# Altium schematic symbol library Intelliclone.SchLib: 488 symbols (part 2 of 6)
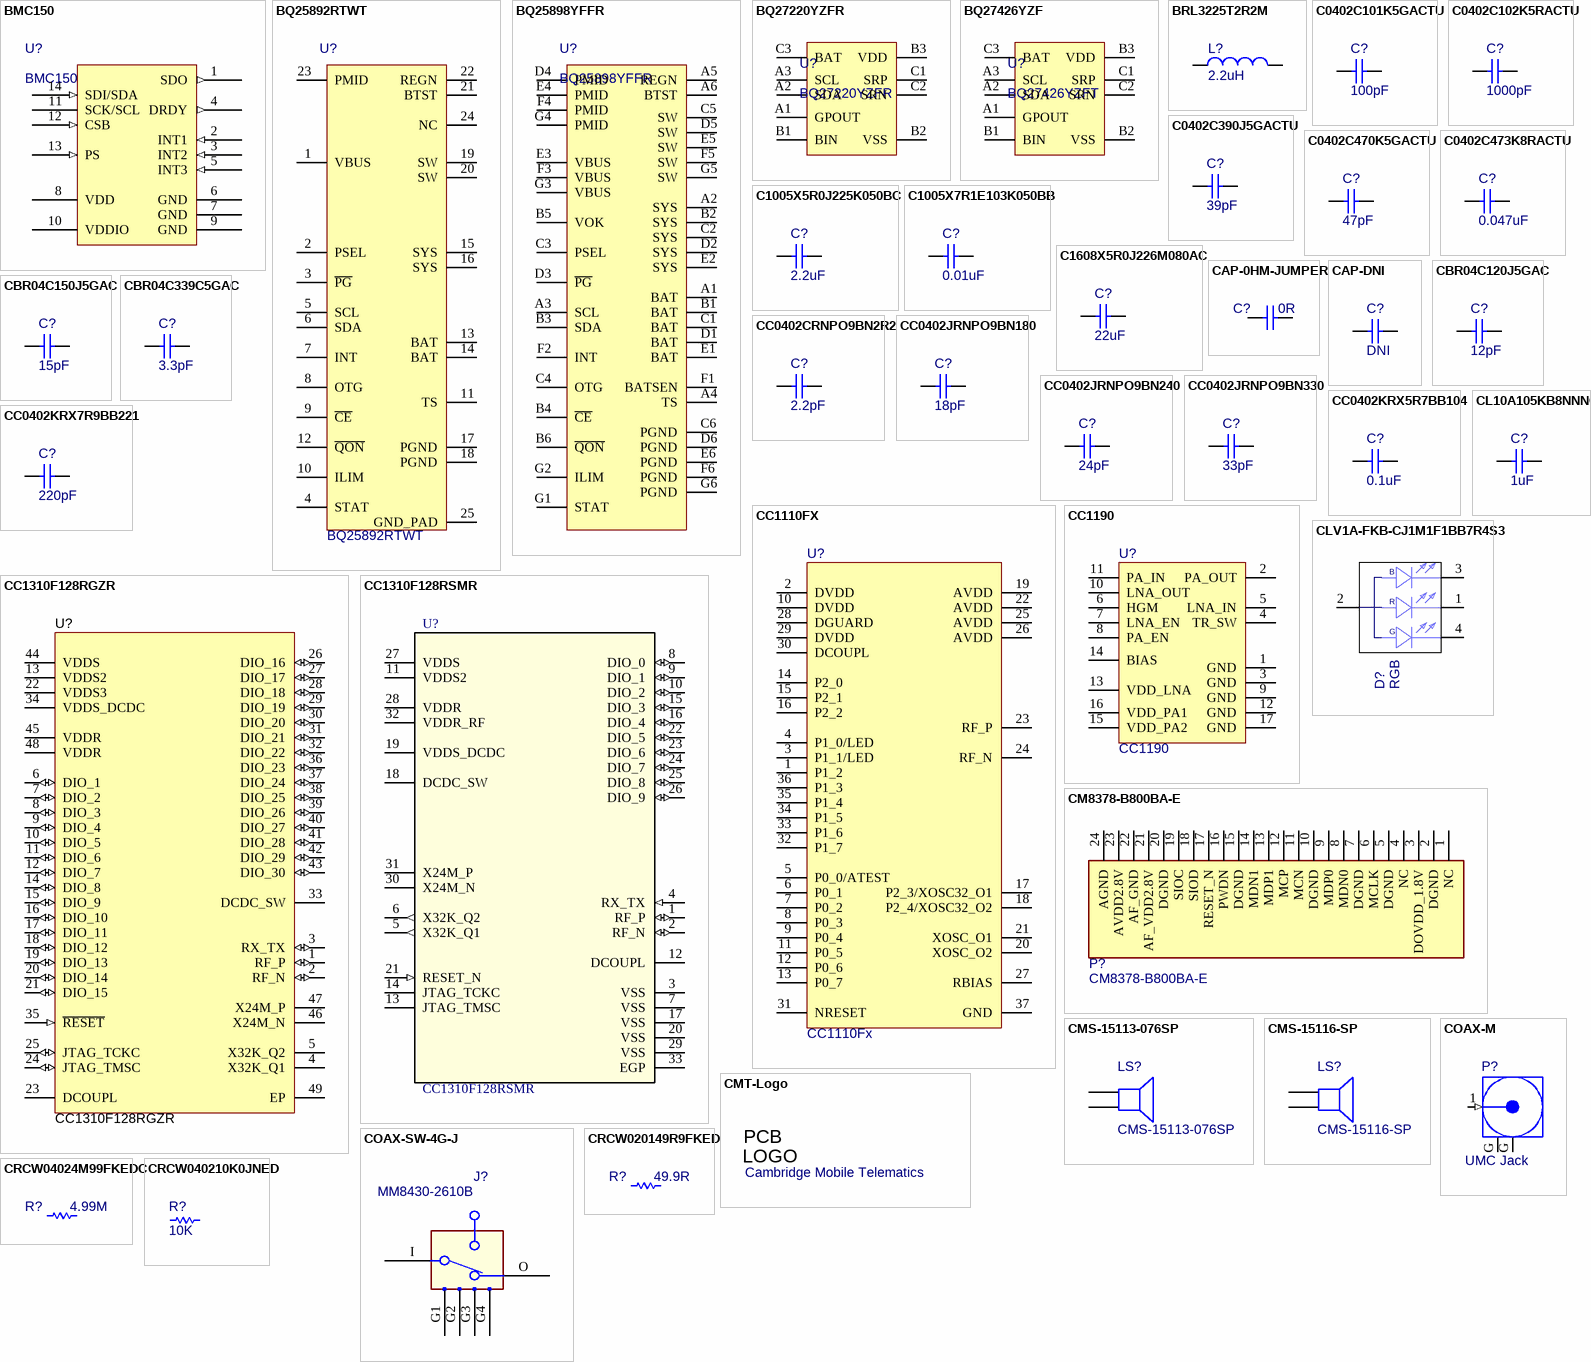
[diagram p22: symbols BMC150 to CRCW040210K0JNED]

## CC1190
designator U?
IC RF FRONT END 915MHZ QFN16; Manufacturer 1: Texas Instruments; Manufacturer Part Number 1: CC1190RGVT; Value: CC11190; Part Type: IC; Supplier 1: Digi-Key; Supplier Part Number 1: 296-25826-2-ND; Supplier 2: Mouser; Supplier 3: Newark; Supplier Part Number 2: 595-CC1190RGVT; Supplier Part Number 3: 64R4902
footprint QFN65P400X400X100-17N
pins: 1 GND, 2 PA_OUT, 3 GND, 4 TR_SW, 5 LNA_IN, 6 HGM, 7 LNA_EN, 8 PA_EN, 9 GND, 10 LNA_OUT, 11 PA_IN, 12 GND, 13 VDD_LNA, 14 BIAS, 15 VDD_PA2, 16 VDD_PA1, 17 GND

## CC1310F128RGZR
designator U?
IC RF TXRX+MCU ISM<1GHZ 48-VFQFN; Alternate PartNumber: CC1310F128RGZT; Manufacturer: Texas Instruments; SymbolCreator: Altium; U/M: EA; SymbolVersion: 2015-05-13; PartNumber: CC1310F128RGZR; PackageReference: RGZ0048A; MountType: SMT; ComponentLink1Description: Datasheet Link; ComponentLink1URL: https://sps06.itg.ti.com/sites/KMS/crossdivteams/altium/docs/ComponentDatasheets/CC13xx_datasheet_ver_0_95.pdf; CompType: IC; Publisher: Texas Instruments; LatestRevisionDate: 2015-06-02; Alternate Manufacturer: Texas Instruments; Supplier 1: Digi-Key; Supplier Part Number 1: 296-44348-1-ND
footprint RGZ0048A
pins: 1 RF_P (io), 2 RF_N (io), 3 RX_TX (io), 4 X32K_Q1, 5 X32K_Q2, 6 DIO_1 (io), 7 DIO_2 (io), 8 DIO_3 (io), 9 DIO_4 (io), 10 DIO_5 (io), 11 DIO_6 (io), 12 DIO_7 (io), 13 VDDS2 (power), 14 DIO_8 (io), 15 DIO_9 (io), 16 DIO_10 (io), 17 DIO_11 (io), 18 DIO_12 (io), 19 DIO_13 (io), 20 DIO_14 (io), 21 DIO_15 (io), 22 VDDS3 (power), 23 DCOUPL (power), 24 JTAG_TMSC (io), 25 JTAG_TCKC (io), 26 DIO_16 (io), 27 DIO_17 (io), 28 DIO_18 (io), 29 DIO_19 (io), 30 DIO_20 (io), 31 DIO_21 (io), 32 DIO_22 (io), 33 DCDC_SW (power), 34 VDDS_DCDC (power), 35 ~{RESET} (in), 36 DIO_23 (io), 37 DIO_24 (io), 38 DIO_25 (io), 39 DIO_26 (io), 40 DIO_27 (io), 41 DIO_28 (io), 42 DIO_29 (io), 43 DIO_30 (io), 44 VDDS (power), 45 VDDR (power), 46 X24M_N, 47 X24M_P, 48 VDDR (power), 49 EP (power)

## CC1310F128RSMR
designator U?
IC RF TXRX+MCU ISM<1GHZ  32VQFN; Manufacturer 1: Texas Instruments; Application_BuildNumber: *; Manufacturer Part Number 1: CC1310F128RSMR; Value: CC1310F128RSMR; Supplier 1: Digi-Key; Supplier Part Number 1: CC1310F128RSMR-ND
footprint RSM0032B
pins: 1 RF_P (io), 2 RF_N (io), 3 VSS (power), 4 RX_TX (in), 5 X32K_Q1 (out), 6 X32K_Q2 (out), 7 VSS (power), 8 DIO_0 (io), 9 DIO_1 (io), 10 DIO_2 (io), 11 VDDS2 (power), 12 DCOUPL, 13 JTAG_TMSC, 14 JTAG_TCKC, 15 DIO_3 (io), 16 DIO_4 (io), 17 VSS (power), 18 DCDC_SW (power), 19 VDDS_DCDC (power), 20 VSS (power), 21 RESET_N (in), 22 DIO_5 (io), 23 DIO_6 (io), 24 DIO_7 (io), 25 DIO_8 (io), 26 DIO_9 (io), 27 VDDS (power), 28 VDDR (power), 29 VSS (power), 30 X24M_N, 31 X24M_P, 32 VDDR_RF (power), 33 EGP (power)

## CL10A105KB8NNNC
designator C?, comment 1uF
CAP CER 1UF 50V X5R 0603; Manufacturer 1: Samsung; Manufacturer Part Number 1: CL10A105KB8NNNC; Part Type: Chip Capacitor; Supplier 1: Digi-Key; Supplier Part Number 1: 1276-1860-1-ND; Voltage Rating: 50V; Value: 1uF
footprint CAPC3216L (Chip Capacitor, Body 3.2x1.6mm, IPC High Density)
footprint CAPC1005L (Chip Capacitor, Body 1.0x0.5mm, IPC High Density)
footprint CAPC2512L (Chip Capacitor, Body 2.54x1.27mm, IPC High Density)
footprint CAPC1608L (Chip Capacitor, Body 1.6x0.8mm, IPC High Density)
footprint CAPC3225L (Chip Capacitor, Body 3.2x2.5mm, IPC High Density)
simulation model CAP (Semiconductor Capacitor)
signal-integrity model Cap Semi
footprint 01005-TIGHT
footprint 0201-TIGHT
footprint C0603 (Chip Capacitor; Body 1.6 x 0.8 mm (LxW typ))
pins: 1, 2

## CLV1A-FKB-CJ1M1F1BB7R4S3
designator D?, comment value RGB  (hidden comment: RGB LED)
LED RED/GREEN/BLUE PLCC4 SMD; Manufacturer Part Number 1: CLV1A-FKB-CJ1M1F1BB7R4S3; Manufacturer 1: Cree; Part Type: LED; Supplier 1: Digi-Key; Supplier 2: Mouser; Supplier Part Number 1: CLV1A-FKB-CJ1M1F1BB7R4S3CT-ND; Supplier Part Number 2: 941-V1AFKBCJ1M1F17R4
footprint 4-PLCC (4-PLCC LED component package)
pins: 1 CA_R, 2 AN_COMMON, 3 CA_B, 4 CA_G
text: B; R; G

## CM8378-B800BA-E
designator P?
CONN SOCKET FPC .4MM 24POS SMD; Manufacturer 1: Panasonic; Manufacturer Part Number 1: AXK7L24223; Value: AXK7L24223; Supplier 1: Digi-Key; Supplier Part Number 1: 255-2984-1-ND; Supplier 2: Mouser; Supplier Part Number 2: 769-AXK7L24223G
footprint AXK7L24223G (Panasonic F4 Family Connector Socket 24 pins)
pins: 1 NC, 2 DGND, 3 DOVDD_1.8V, 4 NC, 5 DGND, 6 MCLK, 7 DGND, 8 MDN0, 9 MDP0, 10 DGND, 11 MCN, 12 MCP, 13 MDP1, 14 MDN1, 15 DGND, 16 PWDN, 17 RESET_N, 18 SIOD, 19 SIOC, 20 DGND, 21 AF_VDD2.8V, 22 AF_GND, 23 AVDD2.8V, 24 AGND

## CMS-15113-076SP
designator LS?
SPEAKER, 15 X 11 MM, 3 MM DEEP; Manufacturer 1: CUI; CMT Part Number: 100179; Manufacturer Part Number 1: CMS-15113-076SP; Value: CMS-15113-076SP; Supplier 1: Mouser; Supplier Part Number 1: 490-CMS-15113-076SP; Supplier 2: Digi-Key; Supplier Part Number 2: 102-4627-ND
footprint HDR1X2 (Connector; Header; 2 Position)
footprint CMS-15113-076S (SPEAKER, 15 X 11 MM, 3 MM DEEP)
pins: M, P

## CMS-15116-SP
designator LS?
SPEAKER, 15 X 11 MM, 3 MM DEEP; Manufacturer 1: CUI; Manufacturer Part Number 1: CMS-15116-SP; Value: CMS-15116-SP; Supplier 1: Mouser; Supplier Part Number 1: 490-CMS-15116-SP; Supplier 2: Digi-Key; Supplier Part Number 2: 102-4356-ND
footprint CMS-15116-SP (SPEAKER, 15 X 11 MM, 3 MM DEEP)
pins: M, P

## CMT-Logo
designator Logo1, comment Cambridge Mobile Telematics  (mechanical)
CMT Corporate Signature; Manufacturer 1: NONE; Value: CMT LOGO; Manufacturer Part Number 1: NONE
footprint TI_Stacked_SolderMask_Medium
footprint TI_Stacked_SolderMask_Medium_Vertical
footprint TI_Stacked_SolderMask_Small
footprint TI_Stacked_SolderMask_Small_Vertical
footprint TI_Stacked_Overlay_Medium
footprint TI_Stacked_Overlay_Medium_Vertical
footprint SBT-Logo (SBT DXF logo)
footprint TI_Stacked_Overlay_Small_Vertical
footprint TI_Horizontal_SolderMask_Small
footprint TI_Horizontal_Overlay_Medium
footprint TI_Horizontal_Overlay_Small
footprint TI_Symbol_SolderMask_Medium
footprint TI_Symbol_SolderMask_Small
footprint TI_Symbol_Overlay_Medium
footprint TI_Symbol_Overlay_Small
footprint TI_Horizontal_SolderMask_Medium
text: PCB; LOGO

## COAX-M
designator P?, comment UMC Jack
CONN UMC JACK STR 50 OHM SMD; Manufacturer Part Number 1: A-1JB-100; Manufacturer 1: Amphenol; Supplier 1: Digi-Key; Supplier Part Number 1: H9161-ND; Supplier 2: Mouser; Supplier Part Number 2: 798-U.FL-R-SMT10; Value: UMC Jack
footprint MMCX2.54-V5 (Connector; RF Coaxial, MMCX, Thru-Hole; 5 Position; Vertical)
footprint U.FL/UMCC (Snap-on connector 6 GHz)
pins: 1 Signal (in) "Signal Pin", G GND (power), G GND (power)

## COAX-SW-4G-J
designator J?, comment MM8430-2610B
CON,COAX,SMT,F,STR,1PORT; Manufacturer 1: Murata; Manufacturer Part Number 1: MM8430-2610RB3; CMT Part Number: 100253; Supplier Part Number 1: 490-8451-6-ND; Supplier 1: Digi-Key; Value: MM8430-2610B
footprint MURATA_MM8430-2610B (CONN SWD RCPT STR 50 OHM SMD)
pins: G1 GND (power), G2 GND (power), G3 GND (power), G4 GND (power), I COM, O NC

## CRCW04024M99FKEDC
designator R?, comment 4.99M
RES SMD 4.99M OHM 1% 1/16W 0402; Manufacturer Part Number 1: CRCW04024M99FKEDC; Manufacturer 1: Panasonic; Supplier 1: Digi-Key; Supplier Part Number 1: 541-4110-1-ND; Tolerance: 1%; Value: 4.99M
footprint 0402 Resistor
pins: 1, 2

## CRCW020149R9FKED
designator R?, comment 49.9R
RES SMD 49.9 OHM 1% 1/20W 0201; Manufacturer Part Number 1: CRCW020149R9FKED; Manufacturer 1: Vishay Dale; Supplier 1: Digi-Key; Supplier Part Number 1: 541-49.9AABCT-ND; Value: 49.9R
footprint 0201 (0201 Standard Footprint)
pins: 1, 2

## CRCW040210K0JNED
designator R?, comment 10K
RES 10K OHM 1/16W 5% 0402 SMD; Manufacturer Part Number 1: CRCW040210K0JNED; Manufacturer 1: Vishay/Dale; CMT Part Number: 100187; Supplier 1: Digi-Key; Supplier Part Number 1: 541-10KJCT-ND; Supplier 2: Mouser; Supplier Part Number 2: 71-CRCW0402J-10K-E3; Value: 10K
footprint 0402 Resistor
footprint RESC0603N (Chip Resistor, Body 0.6x0.3mm, IPC Medium Density)
footprint 1005[0402] (Chip Resistor; Body 1.1 x 0.5 mm (LxW typ))
footprint 0402
pins: 1, 2

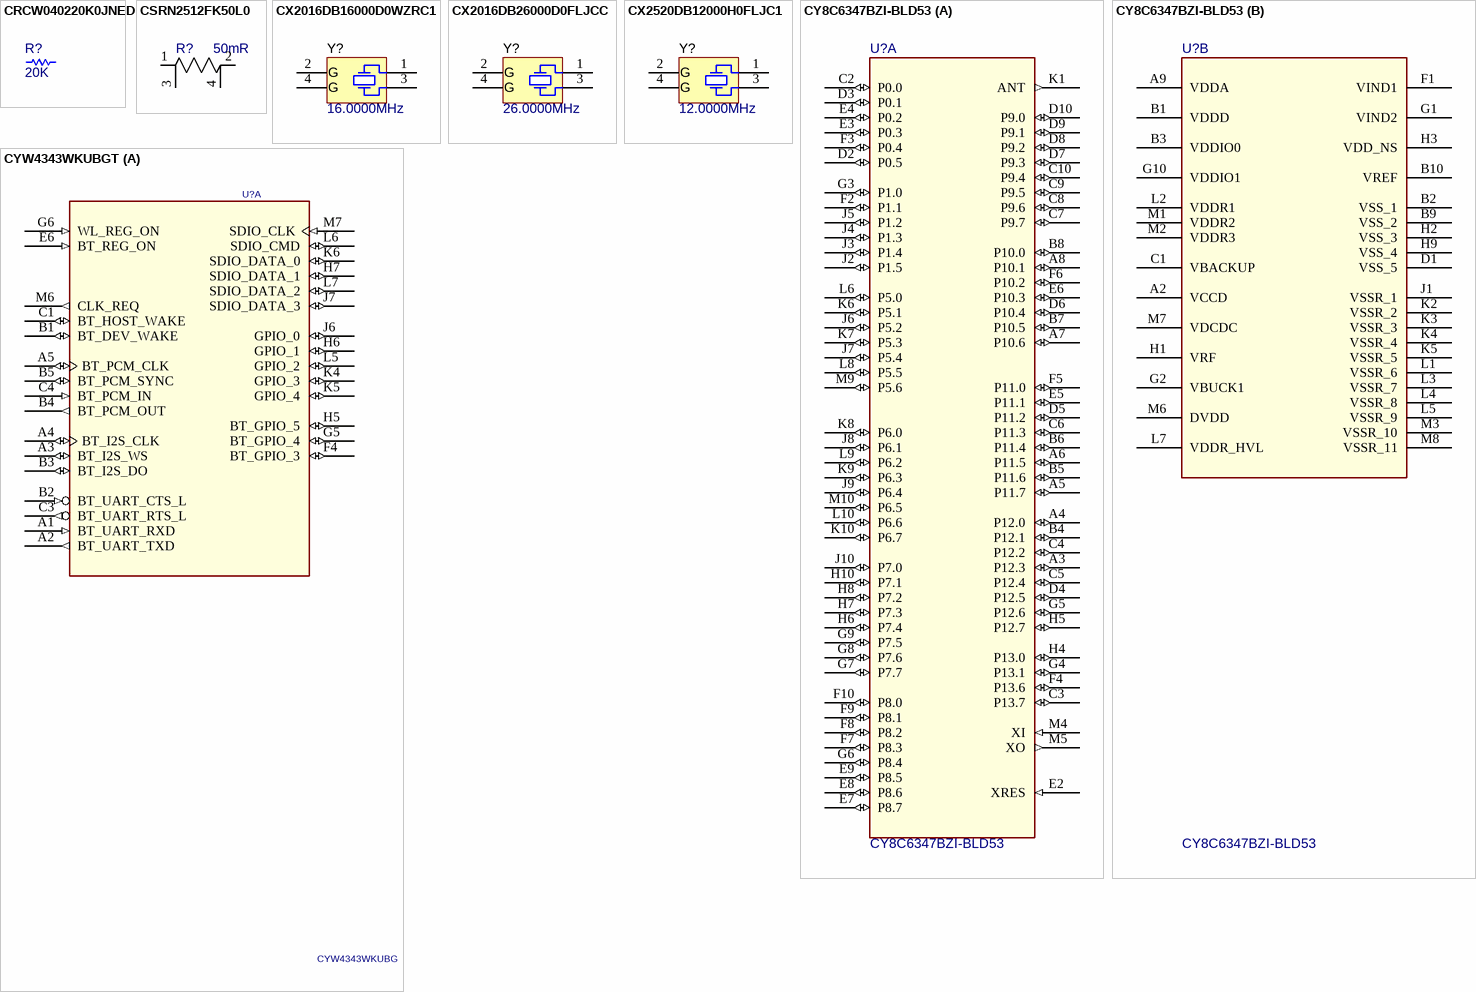
[diagram p3: symbols CRCW040220K0JNED to CYW4343WKUBGT]

## CRCW040220K0JNED
designator R?, comment 20K
RES 20K OHM 1/16W 5% 0402 SMD; Manufacturer 1: Vishay/Dale; Manufacturer Part Number 1: CRCW040220K0JNED; CMT Part Number: 100196; Supplier 1: Digi-Key; Supplier Part Number 1: 541-20KJCT-ND; Supplier 2: Mouser; Supplier Part Number 2: 71-CRCW0402J-20K-E3; Value: 20K
footprint 0402 Resistor
footprint RESC0603N (Chip Resistor, Body 0.6x0.3mm, IPC Medium Density)
footprint 1005[0402] (Chip Resistor; Body 1.1 x 0.5 mm (LxW typ))
pins: 1, 2

## CSRN2512FK50L0
designator R?, comment 50mR
RES 0.05 OHM 1% 2W 2512; Manufacturer Part Number 1: CSRN2512FK50L0; Manufacturer 1: Stackpole International; RefDes: RefDes; Type: DEV; Value: 50mR; Supplier 1: Digi-Key; Supplier Part Number 1: FC4L16R050FERCT-ND; CMT Part Number: *
footprint STA_CSRN2512-M
pins: 1, 2, 3, 4

## CX2016DB16000D0WZRC1
designator Y?, comment 16.0000MHz
CRYSTAL 16.0000MHZ 8PF SMD; Manufacturer 1: Kyocera; Manufacturer Part Number 1: CX2016DB16000D0WZRC1; CMT Part Number: 100226; Supplier 1: Digi-Key; Supplier Part Number 1: 1253-1585-1-ND; Value: 16.0000MHz
footprint DFN95P160X100-4N (DFN, 4-Leads, Body 2.00x1.60mm, Pitch 0.95mm, IPC Medium Density)
pins: 1, 2 GND (power), 3, 4 GND (power)
text: G

## CX2016DB26000D0FLJCC
designator Y?, comment 26.0000MHz
CRYSTAL 26.0000MHZ 8PF SMD; Manufacturer 1: Kyocera; Manufacturer Part Number 1: CX2016DB26000D0FLJCC; Supplier 1: Mouser; Supplier Part Number 1: 581-CX2016DB26DFLJCC; Supplier 2: Digi-Key; Supplier Part Number 2: 1253-1116-1-ND; Value: 26.0000MHz
footprint DFN95P160X100-4N (DFN, 4-Leads, Body 2.00x1.60mm, Pitch 0.95mm, IPC Medium Density)
pins: 1, 2 GND (power), 3, 4 GND (power)
text: G

## CX2520DB12000H0FLJC1
designator Y?, comment 12.0000MHz
CRYSTAL 12.0000MHZ 12PF SMD; Manufacturer 1: Kyocera; Manufacturer Part Number 1: CX2520DB12000H0FLJC1; Supplier 1: Digi-Key; Supplier Part Number 1: 1253-1714-1-ND; CMT Part Number: *; Value: 12.0000MHz
footprint AVX-CX2520DBD (Hand Drawn, 4-Leads,Body 2.5x2mm)
pins: 1, 2 GND (power), 3, 4 GND (power)
text: G

## CY8C6347BZI-BLD53
designator U?
IC DUAL CORE MCU 32BIT 1M 116BGA; Value: CY8C6347BZI-BLD53
part A pins: A3 P12.3 (io), A4 P12.0 (io), A5 P11.7 (io), A6 P11.5 (io), A7 P10.6 (io), A8 P10.1 (io), B4 P12.1 (io), B5 P11.6 (io), B6 P11.4 (io), B7 P10.5 (io), B8 P10.0 (io), C2 P0.0 (io), C3 P13.7 (io), C4 P12.2 (io), C5 P12.4 (io), C6 P11.3 (io), C7 P9.7 (io), C8 P9.6 (io), C9 P9.5 (io), C10 P9.4 (io), D2 P0.5 (io), D3 P0.1 (io), D4 P12.5 (io), D5 P11.2 (io), D6 P10.4 (io), D7 P9.3 (io), D8 P9.2 (io), D9 P9.1 (io), D10 P9.0 (io), E2 XRES (in), E3 P0.3 (io), E4 P0.2 (io), E5 P11.1 (io), E6 P10.3 (io), E7 P8.7 (io), E8 P8.6 (io), E9 P8.5 (io), F2 P1.1 (io), F3 P0.4 (io), F4 P13.6 (io), F5 P11.0 (io), F6 P10.2 (io), F7 P8.3 (io), F8 P8.2 (io), F9 P8.1 (io), F10 P8.0 (io), G3 P1.0 (io), G4 P13.1 (io), G5 P12.6 (io), G6 P8.4 (io), G7 P7.7 (io), G8 P7.6 (io), G9 P7.5 (io), H4 P13.0 (io), H5 P12.7 (io), H6 P7.4 (io), H7 P7.3 (io), H8 P7.2 (io), H10 P7.1 (io), J2 P1.5 (io), J3 P1.4 (io), J4 P1.3 (io), J5 P1.2 (io), J6 P5.2 (io), J7 P5.4 (io), J8 P6.1 (io), J9 P6.4 (io), J10 P7.0 (io), K1 ANT (out), K6 P5.1 (io), K7 P5.3 (io), K8 P6.0 (io), K9 P6.3 (io), K10 P6.7 (io), L6 P5.0 (io), L8 P5.5 (io), L9 P6.2 (io), L10 P6.6 (io), M4 XI (in), M5 XO (out), M9 P5.6 (io), M10 P6.5 (io)
part B pins: A2 VCCD (power), A9 VDDA (power), B1 VDDD (power), B2 VSS_1 (power), B3 VDDIO0 (power), B9 VSS_2 (power), B10 VREF (power), C1 VBACKUP (power), D1 VSS_5 (power), F1 VIND1, G1 VIND2, G2 VBUCK1 (power), G10 VDDIO1 (power), H1 VRF (power), H2 VSS_3 (power), H3 VDD_NS (power), H9 VSS_4 (power), J1 VSSR_1 (power), K2 VSSR_2 (power), K3 VSSR_3 (power), K4 VSSR_4 (power), K5 VSSR_5 (power), L1 VSSR_6 (power), L2 VDDR1 (power), L3 VSSR_7 (power), L4 VSSR_8 (power), L5 VSSR_9 (power), L7 VDDR_HVL (power), M1 VDDR2 (power), M2 VDDR3 (power), M3 VSSR_10 (power), M6 DVDD (power), M7 VDCDC (power), M8 VSSR_11 (power)

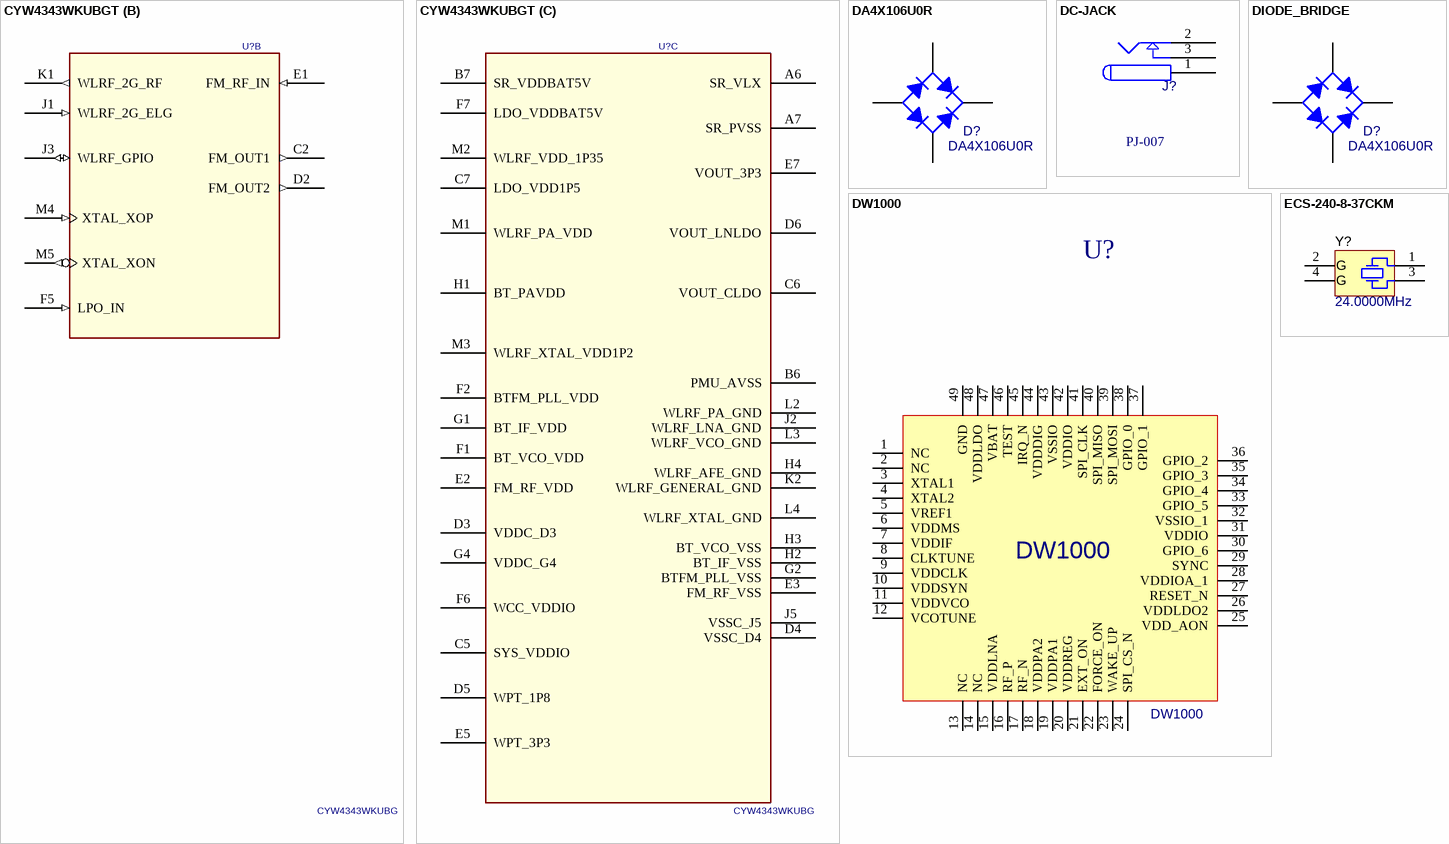
[diagram p4: symbols CYW4343WKUBGT to ECS-240-8-37CKM]

## CYW4343WKUBGT
designator U?, comment CYW4343WKUBG
IC RF TXRX+MCU WIFI 74WLBGA; Manufacturer 1: Cypress; Manufacturer Par Number 1: CYW4343WKUBG; Value: CYW4343WKUBG; Supplier 1: Mouser; Supplier Part Number 1: 727-CYW4343WKUBGT
footprint WLBGA40P7X12_74_287X487N
part A pins: A1 BT_UART_RXD (in), A2 BT_UART_TXD (out), A3 BT_I2S_WS (io), A4 BT_I2S_CLK (io), A5 BT_PCM_CLK (io), B1 BT_DEV_WAKE (io), B2 BT_UART_CTS_L (in), B3 BT_I2S_DO (io), B4 BT_PCM_OUT (out), B5 BT_PCM_SYNC (io), C1 BT_HOST_WAKE (io), C3 BT_UART_RTS_L (out), C4 BT_PCM_IN (in), E6 BT_REG_ON (in), F4 BT_GPIO_3 (io), G5 BT_GPIO_4 (io), G6 WL_REG_ON (in), H5 BT_GPIO_5 (io), H6 GPIO_1 (io), H7 SDIO_DATA_1 (io), J6 GPIO_0 (io), J7 SDIO_DATA_3 (io), K4 GPIO_3 (io), K5 GPIO_4 (io), K6 SDIO_DATA_0 (io), L5 GPIO_2 (io), L6 SDIO_CMD (io), L7 SDIO_DATA_2 (io), M6 CLK_REQ (out), M7 SDIO_CLK (in)
part B pins: C2 FM_OUT1 (out), D2 FM_OUT2 (out), E1 FM_RF_IN (in), F5 LPO_IN (in), J1 WLRF_2G_ELG (in), J3 WLRF_GPIO (io), K1 WLRF_2G_RF (out), M4 XTAL_XOP (in), M5 XTAL_XON (out)
part C pins: A6 SR_VLX (power), A7 SR_PVSS (power), B6 PMU_AVSS (power), B7 SR_VDDBAT5V (power), C5 SYS_VDDIO (power), C6 VOUT_CLDO (power), C7 LDO_VDD1P5 (power), D3 VDDC_D3 (power), D4 VSSC_D4 (power), D5 WPT_1P8 (power), D6 VOUT_LNLDO (power), E2 FM_RF_VDD (power), E3 FM_RF_VSS (power), E5 WPT_3P3 (power), E7 VOUT_3P3 (power), F1 BT_VCO_VDD (power), F2 BTFM_PLL_VDD (power), F6 WCC_VDDIO (power), F7 LDO_VDDBAT5V (power), G1 BT_IF_VDD (power), G2 BTFM_PLL_VSS (power), G4 VDDC_G4 (power), H1 BT_PAVDD (power), H2 BT_IF_VSS (power), H3 BT_VCO_VSS (power), H4 WLRF_AFE_GND (power), J2 WLRF_LNA_GND (power), J5 VSSC_J5 (power), K2 WLRF_GENERAL_GND (power), L2 WLRF_PA_GND (power), L3 WLRF_VCO_GND (power), L4 WLRF_XTAL_GND (power), M1 WLRF_PA_VDD (power), M2 WLRF_VDD_1P35 (power), M3 WLRF_XTAL_VDD1P2 (power)

## DA4X106U0R
designator D?
BRIDGE RECT 80V 100MA MINI4; Manufacturer 1: Panasonic; Value: DA4X106U0R; Supplier 1: Digi-Key; Supplier Part Number 1: DA4X106U0RCT-ND; Supplier 2: Mouser; Supplier Part Number 2: 667-DA4X106U0R; Manufacturer Part Number 1: DA4X106U0R
simulation model BRIDGE (Spice Subcircuit)
footprint SOT95P245X110-5N (SOT23, 5-Leads, Body 2.90x2.45mm, Pitch 0.95mm, IPC Medium Density)
pins: 1 K, 2 C, 3 A, 4 C

## DC-JACK
designator J?  value PJ-007  (hidden comment: DC-JACK)
CONN PWR JACK RT ANG 1.3MM I.D.; Manufacturer 1: CUI Stack; Manufacturer Part Number 1: PJ-007; Supplier 1: Digi-Key; Supplier Part Number 1: CP-2519-ND
footprint PJ-007 (Footprint not found)
pins: 1, 2, 3

## DIODE_BRIDGE
designator D?, comment DA4X106U0R
BRIDGE RECT 80V 100MA MINI4; Manufacturer 1: Panasonic; Manufacturer Part Number 1: DA4X106U0R; Value: DA4X106U0R; Supplier 1: Mouser; Supplier 2: Newark; Supplier 3: Digi-Key; Supplier Part Number 1: 667-DA4X106U0R; Supplier Part Number 2: 56W3697; Supplier Part Number 3: DA4X106U0RCT-ND
simulation model BRIDGE (Spice Subcircuit)
footprint SOT95P245X110-5N (SOT23, 5-Leads, Body 2.90x2.45mm, Pitch 0.95mm, IPC Medium Density)
pins: 1 K, 2 C, 3 A, 4 C

## DW1000
designator U?
IC RF TXRX 802.15.4 48­QFN; Manufacturer 1: Decawave Ltd.; Supplier 1: Digi-Key; Supplier Part Number 1: 1479-1001-1-ND; Value: DW1000; Manufacturer Part Number 1: DW1000
footprint DW1000-QFN-48 (Footprint not found)
pins: 1 NC, 2 NC, 3 XTAL1, 4 XTAL2, 5 VREF1, 6 VDDMS, 7 VDDIF, 8 CLKTUNE, 9 VDDCLK, 10 VDDSYN, 11 VDDVCO, 12 VCOTUNE, 13 NC, 14 NC, 15 VDDLNA, 16 RF_P, 17 RF_N, 18 VDDPA2, 19 VDDPA1, 20 VDDREG, 21 EXT_ON, 22 FORCE_ON, 23 WAKE_UP, 24 SPI_CS_N, 25 VDD_AON, 26 VDDLDO2, 27 RESET_N, 28 VDDIOA_1, 29 SYNC, 30 GPIO_6, 31 VDDIO, 32 VSSIO_1, 33 GPIO_5, 34 GPIO_4, 35 GPIO_3, 36 GPIO_2, 37 GPIO_1, 38 GPIO_0, 39 SPI_MOSI, 40 SPI_MISO, 41 SPI_CLK, 42 VDDIO, 43 VSSIO, 44 VDDDIG, 45 IRQ_N, 46 TEST, 47 VBAT, 48 VDDLDO, 49 GND

## ECS-240-8-37CKM
designator Y?, comment 24.0000MHz
CRYSTAL 24.0000MHZ 8PF SMD; Manufacturer 1: ECS; Manufacturer Part Number 1: ECS-240-8-37CKM; Supplier 1: Digi-Key; Supplier Part Number 1: XC1543CT-ND; Value: 24.0000MHz
footprint DFN95P160X100-4N (DFN, 4-Leads, Body 2.00x1.60mm, Pitch 0.95mm, IPC Medium Density)
pins: 1, 2 GND (power), 3, 4 GND (power)
text: G

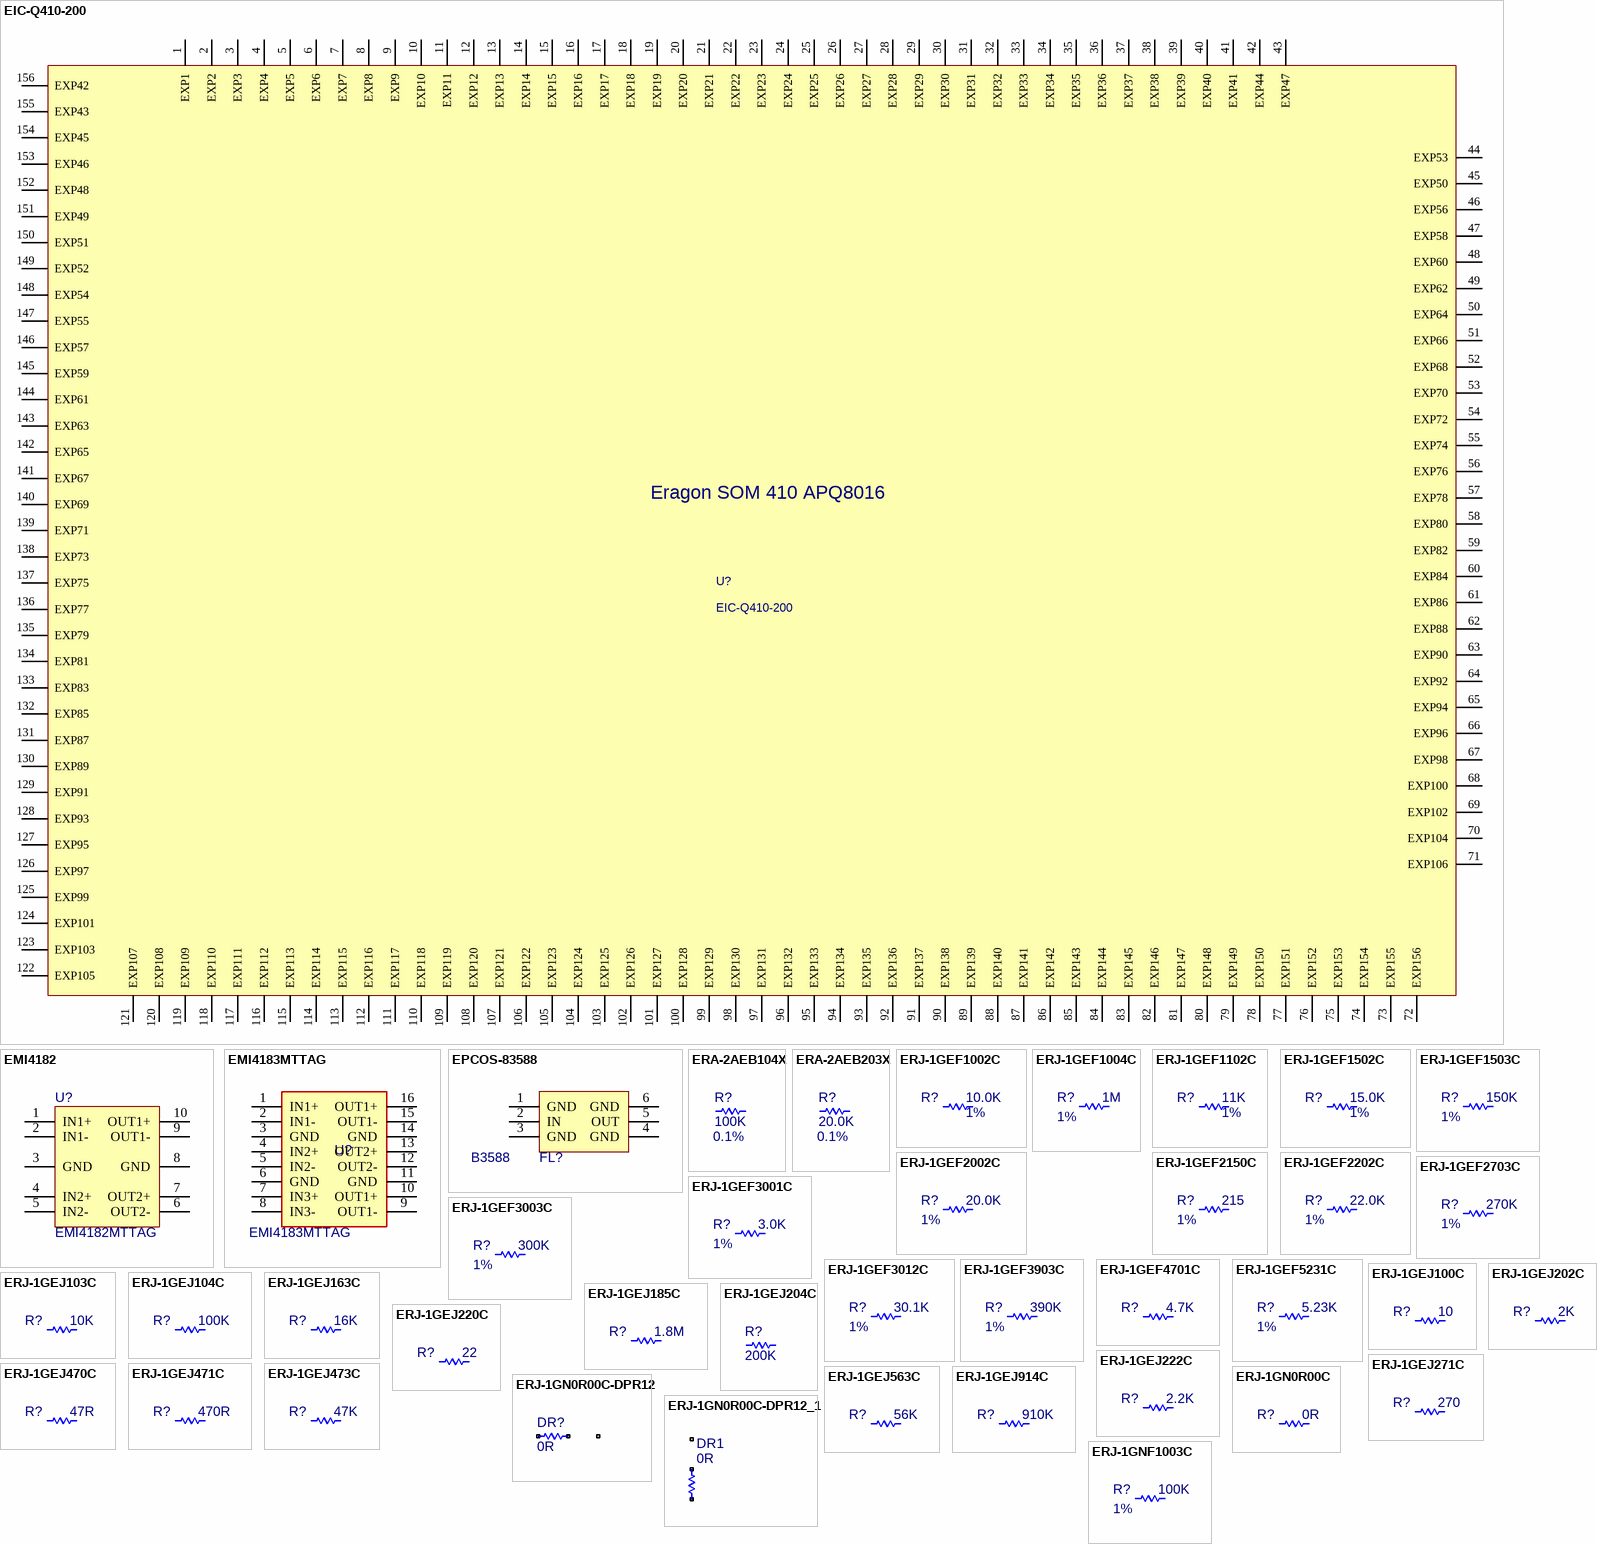
[diagram p5: symbols EIC-Q410-200 to ERJ-1GNF1003C]

## EIC-Q410-200
designator U?
MODULE SNAPDRAGON APQ8016 PROCESSOR; Manufacturer 1: eInfochips; Manufacturer Part Number 1: EIC-Q410-200; Value: EIC-Q410-200; Supplier 1: Arrow; Supplier Part Number 1: EIC-Q410-200
footprint EIC-Q410-200
pins: 1 EXP1, 2 EXP2, 3 EXP3, 4 EXP4, 5 EXP5, 6 EXP6, 7 EXP7, 8 EXP8, 9 EXP9, 10 EXP10, 11 EXP11, 12 EXP12, 13 EXP13, 14 EXP14, 15 EXP15, 16 EXP16, 17 EXP17, 18 EXP18, 19 EXP19, 20 EXP20, 21 EXP21, 22 EXP22, 23 EXP23, 24 EXP24, 25 EXP25, 26 EXP26, 27 EXP27, 28 EXP28, 29 EXP29, 30 EXP30, 31 EXP31, 32 EXP32, 33 EXP33, 34 EXP34, 35 EXP35, 36 EXP36, 37 EXP37, 38 EXP38, 39 EXP39, 40 EXP40, 41 EXP41, 42 EXP44, 43 EXP47, 44 EXP53, 45 EXP50, 46 EXP56, 47 EXP58, 48 EXP60, 49 EXP62, 50 EXP64, 51 EXP66, 52 EXP68, 53 EXP70, 54 EXP72, 55 EXP74, 56 EXP76, 57 EXP78, 58 EXP80, 59 EXP82, 60 EXP84, 61 EXP86, 62 EXP88, 63 EXP90, 64 EXP92, 65 EXP94, 66 EXP96, 67 EXP98, 68 EXP100, 69 EXP102, 70 EXP104, 71 EXP106, 72 EXP156, 73 EXP155, 74 EXP154, 75 EXP153, 76 EXP152, 77 EXP151, 78 EXP150, 79 EXP149, 80 EXP148, 81 EXP147, 82 EXP146, 83 EXP145, 84 EXP144, 85 EXP143, 86 EXP142, 87 EXP141, 88 EXP140, 89 EXP139, 90 EXP138, 91 EXP137, 92 EXP136, 93 EXP135, 94 EXP134, 95 EXP133, 96 EXP132, 97 EXP131, 98 EXP130, 99 EXP129, 100 EXP128, 101 EXP127, 102 EXP126, 103 EXP125, 104 EXP124, 105 EXP123, 106 EXP122, 107 EXP121, 108 EXP120, 109 EXP119, 110 EXP118, 111 EXP117, 112 EXP116, 113 EXP115, 114 EXP114, 115 EXP113, 116 EXP112, 117 EXP111, 118 EXP110, 119 EXP109, 120 EXP108, 121 EXP107, 122 EXP105, 123 EXP103, 124 EXP101, 125 EXP99, 126 EXP97, 127 EXP95, 128 EXP93, 129 EXP91, 130 EXP89, 131 EXP87, 132 EXP85, 133 EXP83, 134 EXP81, 135 EXP79, 136 EXP77, 137 EXP75, 138 EXP73, 139 EXP71, 140 EXP69, 141 EXP67, 142 EXP65, 143 EXP63, 144 EXP61, 145 EXP59, 146 EXP57, 147 EXP55, 148 EXP54, 149 EXP52, 150 EXP51, 151 EXP49, 152 EXP48, 153 EXP46, 154 EXP45, 155 EXP43, 156 EXP42
text: Eragon SOM 410 APQ8016

## EMI4182
designator U?, comment EMI4182MTTAG
CMC 100MA 4LN SMD ESD; Manufacturer 1: On Semiconductor; CMT Part Number: 100248; Value: EMI4182MTTAG; Manufacturer Part Number 1: EMI4182MTTAG; Supplier 1: Digi-Key; Supplier Part Number 1: EMI4182MTTAGOSCT-ND; Part Type: IC; Manufacturer 2: Littelfuse Inc.; Manufacturer Part Number 2: SP5003-04TTG; Supplier Part Number 2: F6504CT-ND; Supplier 2: Digi-Key
footprint SON50P200X80-10N (Footprint not found)
pins: 1 IN1+, 2 IN1-, 3 GND, 4 IN2+, 5 IN2-, 6 OUT2-, 7 OUT2+, 8 GND, 9 OUT1-, 10 OUT1+

## EMI4183MTTAG
designator U?
IC FILTER COMMON MODE ESD 16WDFN; Manufacturer 1: ON Semiconductor; Manufacturer Part Number 1: EMI4183MTTAG; Part Type: IC; Supplier 1: Digi-Key; Supplier Part Number 1: EMI4183MTTAGOSCT-ND; Supplier 2: Mouser; Supplier Part Number 2: 863-EMI4183MTTAG; Value: EMI4183MTTAG
footprint WDFN16-4x2-0.5P
pins: 1 IN1+, 2 IN1-, 3 GND, 4 IN2+, 5 IN2-, 6 GND, 7 IN3+, 8 IN3-, 9 OUT1-, 10 OUT1+, 11 GND, 12 OUT2-, 13 OUT2+, 14 GND, 15 OUT1-, 16 OUT1+

## EPCOS-83588
designator FL?  value B3588  (hidden comment: EPCOS-83588)
FILTER SAW 915MHZ REMOTE SMD; Manufacturer 1: EPCOS; Manufacturer Part Number 1: B39921B3588U410W9; Part Type: SAW Filter; Supplier 1: Digi-Key; Supplier Part Number 1: 495-1674-1-ND; Supplier 2: Mouser; Supplier Part Number 2: N/A
footprint EPCOS-3X3MM
pins: 1 GND, 2 IN, 3 GND, 4 GND, 5 OUT, 6 GND

## ERA-2AEB104X
designator R?, comment Tolerance: 0.1%  (hidden comment: 100K)
RES 100K OHM 1/16W 0.1% 0402; Manufacturer Part Number 1: ERA-2AEB104X; Manufacturer 1: Panasonic; Supplier 1: Digi-Key; Supplier Part Number 1: P100KDCCT-ND; Supplier 2: Mouser; Supplier Part Number 2: 667-ERA-2AEB104X; Value: 100K
footprint 0402 Resistor
footprint RESC0603N (Chip Resistor, Body 0.6x0.3mm, IPC Medium Density)
footprint 1005[0402] (Chip Resistor; Body 1.1 x 0.5 mm (LxW typ))
pins: 1, 2

## ERA-2AEB203X
designator R?, comment Tolerance: 0.1%  (hidden comment: 20.0K)
RES 20.0K OHM 1/16W 0.1% 0402; Manufacturer Part Number 1: ERA-2AEB203X; Manufacturer 1: Panasonic; Supplier 1: Digi-Key; Supplier Part Number 1: P20KDCCT-ND; Supplier 2: Mouser; Supplier Part Number 2: 667-ERA-2AEB203X; Value: 20.0K
footprint 0402 Resistor
footprint RESC0603N (Chip Resistor, Body 0.6x0.3mm, IPC Medium Density)
footprint 1005[0402] (Chip Resistor; Body 1.1 x 0.5 mm (LxW typ))
pins: 1, 2

## ERJ-1GEF1002C
designator R?, comment Tolerance: 1%  (hidden comment: 10.0K)
RES SMD 10K OHM 1% 1/20W 0201; Manufacturer Part Number 1: ERJ-1GEF1002C; Manufacturer 1: Panasonic; Supplier 1: Digi-Key; Supplier Part Number 1: P123186CT-ND; Value: 10.0K
footprint 0201 (0201 Standard Footprint)
pins: 1, 2

## ERJ-1GEF1004C
designator R?, comment Tolerance: 1%  (hidden comment: 1M)
RES SMD 1M OHM 1% 1/20W 0201; Manufacturer Part Number 1: ERJ-1GEF1004C; Manufacturer 1: Panasonic; Supplier 1: Digi-Key; Supplier Part Number 1: P1.00MABDKR-ND; Value: 1M
footprint 0201 (0201 Standard Footprint)
pins: 1, 2

## ERJ-1GEF1102C
designator R?, comment Tolerance: 1%  (hidden comment: 11K)
RES SMD 11K OHM 1% 1/20W 0201; Manufacturer Part Number 1: ERJ-1GEF1102C; Manufacturer 1: Panasonic; Supplier 1: Digi-Key; Supplier Part Number 1: P11.0KABCT-ND; Value: 11K
footprint 0201 (0201 Standard Footprint)
pins: 1, 2

## ERJ-1GEF1502C
designator R?, comment Tolerance: 1%  (hidden comment: 15.0K)
RES SMD 15K OHM 1% 1/20W 0201; Manufacturer Part Number 1: ERJ-1GEF1502C; Manufacturer 1: Panasonic; Supplier 1: Digi-Key; Supplier Part Number 1: P15.0KABCT-ND; Value: 15.0K
footprint 0201 (0201 Standard Footprint)
pins: 1, 2

## ERJ-1GEF1503C
designator R?, comment Tolerance: 1%  (hidden comment: 150K)
RES SMD 150K OHM 1% 1/20W 0201; Manufacturer Part Number 1: ERJ-1GEF1503C; Manufacturer 1: Panasonic; CMT Part Number: 100194; Supplier 1: Digi-Key; Supplier Part Number 1: P150KABCT-ND; Value: 150K
footprint 0201 (0201 Standard Footprint)
pins: 1, 2

## ERJ-1GEF2002C
designator R?, comment Tolerance: 1%  (hidden comment: 20.0K)
RES SMD 20K OHM 1% 1/20W 0201; Manufacturer Part Number 1: ERJ-1GEF2002C; Manufacturer 1: Panasonic; Supplier 1: Digi-Key; Supplier Part Number 1: P20.0KABCT-ND; Value: 20.0K
footprint 0201 (0201 Standard Footprint)
pins: 1, 2

## ERJ-1GEF2150C
designator R?, comment Tolerance: 1%  (hidden comment: 215)
RES SMD 215 OHM 1% 1/20W 0201; Manufacturer Part Number 1: ERJ-1GEF2150C; Manufacturer 1: Panasonic; Supplier 1: Digi-Key; Supplier Part Number 1: P215ABCT-ND; Value: 215
footprint 0201 (0201 Standard Footprint)
pins: 1, 2

## ERJ-1GEF2202C
designator R?, comment Tolerance: 1%  (hidden comment: 22.0K)
RES SMD 22K OHM 1% 1/20W 0201; Manufacturer Part Number 1: ERJ-1GEF2202C; Manufacturer 1: Panasonic; Supplier 1: Digi-Key; Supplier Part Number 1: P22.0KABCT-ND; Value: 22.0K
footprint 0201 (0201 Standard Footprint)
pins: 1, 2

## ERJ-1GEF2703C
designator R?, comment Tolerance: 1%  (hidden comment: 270K)
RES SMD 270K OHM 1% 1/20W 0201; Manufacturer Part Number 1: ERJ-1GEF2703C; Manufacturer 1: Panasonic; Supplier 1: Digi-Key; Supplier Part Number 1: P270KABCT-ND; Value: 270K
footprint 0201 (0201 Standard Footprint)
pins: 1, 2

## ERJ-1GEF3001C
designator R?, comment Tolerance: 1%  (hidden comment: 3.0K)
RES SMD 3K OHM 1% 1/20W 0201; Manufacturer Part Number 1: ERJ-1GEF3001C; Manufacturer 1: Panasonic; Supplier 1: Digi-Key; Supplier Part Number 1: P3.00KABDKR-ND; Value: 3.0K
footprint 0201 (0201 Standard Footprint)
pins: 1, 2

## ERJ-1GEF3003C
designator R?, comment Tolerance: 1%  (hidden comment: 300K)
RES SMD 300K OHM 1% 1/20W 0201; Manufacturer Part Number 1: ERJ-1GEF3003C; Manufacturer 1: Panasonic; Supplier 1: Digi-Key; Supplier Part Number 1: P300KABCT-ND; Value: 300K
footprint 0201 (0201 Standard Footprint)
pins: 1, 2

## ERJ-1GEF3012C
designator R?, comment Tolerance: 1%  (hidden comment: 30.1K)
RES SMD 30.1K OHM 1% 1/20W 0201; Manufacturer Part Number 1: ERJ-1GEF3012C; Manufacturer 1: Panasonic; Supplier 1: Digi-Key; Supplier Part Number 1: P30.1KABCT-ND; Value: 30.1K
footprint 0201 (0201 Standard Footprint)
pins: 1, 2

## ERJ-1GEF3903C
designator R?, comment Tolerance: 1%  (hidden comment: 390K)
RES SMD 390K OHM 1% 1/20W 0201; Manufacturer Part Number 1: ERJ-1GEF3903C; Manufacturer 1: Panasonic; Value: 390K
footprint 0201 (0201 Standard Footprint)
pins: 1, 2

## ERJ-1GEF4701C
designator R?, comment 4.7K
RES SMD 4.7K OHM 1% 1/20W 0201; Manufacturer Part Number 1: ERJ-1GEF4701C; Manufacturer 1: Panasonic; Supplier 1: Digi-Key; Supplier Part Number 1: P4.70KABCT-ND; CMT Part Number: *; Value: 4.7K
footprint 0201 (0201 Standard Footprint)
pins: 1, 2

## ERJ-1GEF5231C
designator R?, comment Tolerance: 1%  (hidden comment: 5.23K)
RES SMD 5.23K OHM 1% 1/20W 0201; Manufacturer Part Number 1: ERJ-1GEF5231C; Manufacturer 1: Panasonic; Supplier 1: Digi-Key; Supplier Part Number 1: P5.23KABCT-ND; Value: 5.23K
footprint 0201 (0201 Standard Footprint)
pins: 1, 2

## ERJ-1GEJ100C
designator R?, comment 10
RES SMD 10 OHM 5% 1/20W 0201; Manufacturer Part Number 1: ERJ-1GEJ100C; Manufacturer 1: Panasonic; Supplier 1: Digi-Key; Supplier Part Number 1: P10AGCT-ND; Value: 10
footprint 0201 (0201 Standard Footprint)
pins: 1, 2

## ERJ-1GEJ103C
designator R?, comment 10K
RES SMD 10K 5% 1/20W 0201; Manufacturer Part Number 1: ERJ-1GEJ103C; Manufacturer 1: Panasonic; CMT Part Number: 100191; Supplier 1: Digi-Key; Supplier Part Number 1: P10KAGCT-ND; Value: 10K
footprint 0201 (0201 Standard Footprint)
pins: 1, 2

## ERJ-1GEJ104C
designator R?, comment 100K
RES SMD 100K 5% 1/20W 0201; Manufacturer Part Number 1: ERJ-1GEJ104C; Manufacturer 1: Panasonic; Supplier 1: Digi-Key; Supplier Part Number 1: P100KAGCT-ND; Value: 100K
footprint 0201 (0201 Standard Footprint)
pins: 1, 2

## ERJ-1GEJ163C
designator R?, comment 16K
RES SMD 16K OHM 5% 1/20W 0201; Manufacturer Part Number 1: ERJ-1GEJ163C; Manufacturer 1: Panasonic; Supplier 1: Digi-Key; Supplier Part Number 1: P16KAGCT-ND; Value: 16K
footprint 0201 (0201 Standard Footprint)
pins: 1, 2

## ERJ-1GEJ185C
designator R?, comment 1.8M
RES SMD 1.8M OHM 5% 1/20W 0201; Manufacturer Part Number 1: ERJ-1GEJ185C; Manufacturer 1: Panasonic; Supplier 1: Digi-Key; Supplier Part Number 1: P1.8MAGDKR-ND; Value: 1.8M
footprint 0201 (0201 Standard Footprint)
pins: 1, 2

## ERJ-1GEJ202C
designator R?, comment 2K
RES SMD 2K OHM 5% 1/20W 0201; Manufacturer Part Number 1: ERJ-1GEJ202C; Manufacturer 1: Panasonic; CMT Part Number: 100234; Supplier 1: Digi-Key; Supplier Part Number 1: P2.0KAGTR-ND; Value: 2K
footprint 0201 (0201 Standard Footprint)
pins: 1, 2

## ERJ-1GEJ204C
designator R?, comment 200K
RES SMD 200K 5% 1/20W 0201; Manufacturer Part Number 1: ERJ-1GEJ204C; Manufacturer 1: Panasonic; Part Type: Chip Resistor; Supplier 1: Digi-Key; Supplier Part Number 1: P200KAGCT-ND; Value: 200K
footprint 0201 (0201 Standard Footprint)
pins: 1, 2

## ERJ-1GEJ220C
designator R?, comment 22
RES SMD 22 OHM 5% 1/20W 0201; Manufacturer Part Number 1: ERJ-1GEJ220C; Manufacturer 1: Panasonic; Supplier 1: Digi-Key; Supplier Part Number 1: P22AGCT-ND; CMT Part Number: *; Value: 22
footprint 0201 (0201 Standard Footprint)
pins: 1, 2

## ERJ-1GEJ222C
designator R?, comment 2.2K
RES SMD 2.2K OHM 5% 1/20W 0201; Manufacturer Part Number 1: ERJ-1GEJ222C; Manufacturer 1: Panasonic; Supplier 1: Digi-Key; Supplier Part Number 1: P2.2KAGCT-ND; Value: 2.2K
footprint 0201 (0201 Standard Footprint)
pins: 1, 2

## ERJ-1GEJ271C
designator R?, comment 270
RES SMD 270 OHM 5% 1/20W 0201; Manufacturer Part Number 1: ERJ-1GEJ271C; Manufacturer 1: Panasonic; Supplier 1: Digi-Key; Supplier Part Number 1: P270AGCT-ND; Value: 270
footprint 0201 (0201 Standard Footprint)
pins: 1, 2

## ERJ-1GEJ470C
designator R?, comment 47R
RES SMD 47 OHM 5% 1/20W 0201; Manufacturer Part Number 1: ERJ-1GEJ470C; Manufacturer 1: Panasonic; CMT Part Number: 100188; Supplier 1: Digi-Key; Supplier Part Number 1: P47AGCT-ND; Value: 47R
footprint 0201 (0201 Standard Footprint)
pins: 1, 2

## ERJ-1GEJ471C
designator R?, comment 470R
RES SMD 470 OHM 5% 1/20W 0201; Manufacturer Part Number 1: ERJ-1GEJ471C; Manufacturer 1: Panasonic; CMT Part Number: 100227; Supplier 1: Mouser; Supplier Part Number 1: 667-ERJ-1GEJ471C; Value: 470R
footprint 0201 (0201 Standard Footprint)
pins: 1, 2

## ERJ-1GEJ473C
designator R?, comment 47K
RES SMD 47K 5% 1/20W 0201; Manufacturer Part Number 1: ERJ-1GEJ473C; Manufacturer 1: Panasonic; CMT Part Number: 100192; Supplier 1: Digi-Key; Supplier Part Number 1: P47KAGCT-ND; Value: 47K
footprint 0201 (0201 Standard Footprint)
pins: 1, 2

## ERJ-1GEJ563C
designator R?, comment 56K
RES SMD 56K OHM 5% 1/20W 0201; Manufacturer Part Number 1: ERJ-1GEJ563C; Manufacturer 1: Panasonic; Supplier 1: Digi-Key; Supplier Part Number 1: P56KAGCT-ND; Value: 56K
footprint 0201 (0201 Standard Footprint)
pins: 1, 2

## ERJ-1GEJ914C
designator R?, comment 910K
RES SMD 910K OHM 5% 1/20W 0201; Manufacturer Part Number 1: ERJ-1GEJ914C; Manufacturer 1: Panasonic; Supplier 1: Digi-Key; Supplier Part Number 1: P910KAGCT-ND; Value: 910K
footprint 0201 (0201 Standard Footprint)
pins: 1, 2

## ERJ-1GN0R00C
designator R?, comment 0R
RES SMD 0 OHM JUMPER 1/20W 0201; Manufacturer Part Number 1: ERJ-1GN0R00C; Manufacturer 1: Panasonic; CMT Part Number: 100189; Supplier 1: Digi-Key; Supplier Part Number 1: P15979TR-ND; Supplier 2: Newark; Supplier Part Number 2: 51W5934; Value: 0R
footprint 0201 (0201 Standard Footprint)
pins: 1, 2

## ERJ-1GN0R00C-DPR12
designator DR?, comment 0R
RES 0.0 OHM 1/20W JUMP 0201 SMD; Manufacturer 1: Panasonic; Manufacturer Part Number 1: ERJ-1GN0R00C; CMT Part Number: 100167; Supplier 1: Digi-Key; Supplier Part Number 1: P15979CT-ND; Supplier 2: Mouser; Supplier Part Number 2: 667-ERJ-1GN0R00C; Value: 0R
footprint DPR-0201-12
pins: 1, 2, 3

## ERJ-1GN0R00C-DPR12_1
designator DR1, comment 0R
RES 0.0 OHM 1/20W JUMP 0201 SMD; Manufacturer 1: Panasonic; Manufacturer Part Number 1: ERJ-1GN0R00C; CMT Part Number: 100167; Supplier 1: Digi-Key; Supplier Part Number 1: P15979CT-ND; Supplier 2: Mouser; Supplier Part Number 2: 667-ERJ-1GN0R00C; Value: 0R
footprint DPR-0201-12
pins: 1, 2, 3

## ERJ-1GNF1003C
designator R?, comment Tolerance: 1%  (hidden comment: 100K)
RES SMD 100K 1% 1/20W 0201; Manufacturer Part Number 1: ERJ-1GNF1003C; Manufacturer 1: Panasonic; Supplier 1: Digi-Key; Supplier Part Number 1: P122655CT-ND; Value: 100K
footprint 0201 (0201 Standard Footprint)
pins: 1, 2

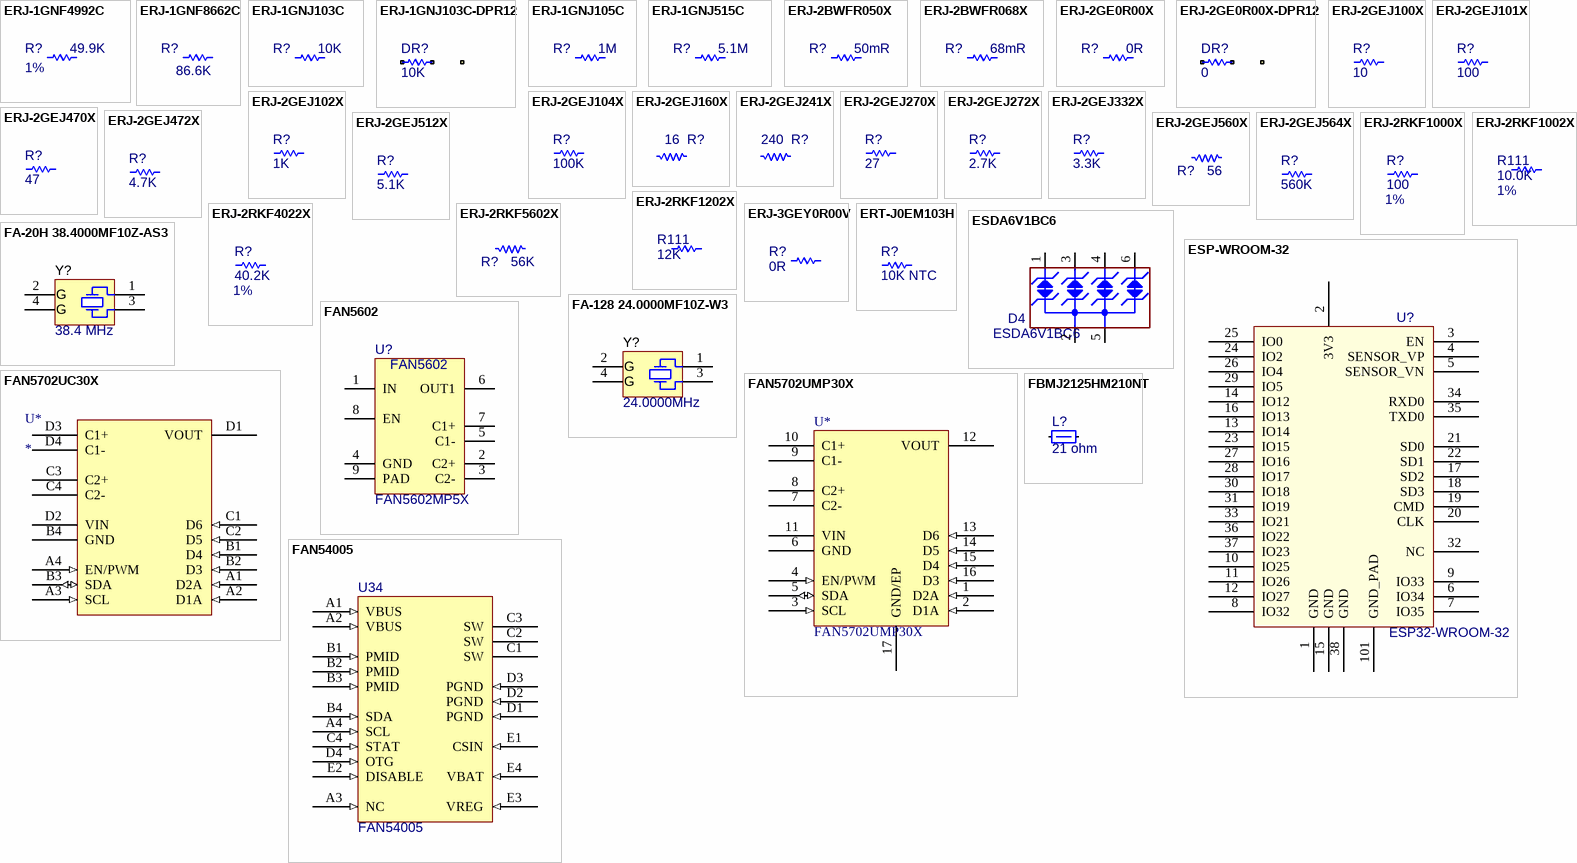
[diagram p6: symbols ERJ-1GNF4992C to FBMJ2125HM210NT]

## ERJ-1GNF4992C
designator R?, comment Tolerance: 1%  (hidden comment: 49.9K)
RES SMD 49.9K OHM 1% 1/20W 0201; Manufacturer Part Number 1: ERJ-1GNF4992C; Manufacturer 1: Panasonic; Supplier 1: Digi-Key; Supplier Part Number 1: P123047CT-ND; Value: 49.9K
footprint 0201 (0201 Standard Footprint)
pins: 1, 2

## ERJ-1GNF8662C
designator R?, comment 86.6K
RES SMD 86.6K OHM 1% 1/20W 0201; Manufacturer 1: Panasonic; Manufacturer Part Number 1: ERJ-1GNF8662C; CMT Part Number: 100242; Supplier 1: Digi-Key; Supplier Part Number 1: P123186CT-ND; Value: 86.6K; Tolerance: 1%
footprint 0201 (0201 Standard Footprint)
pins: 1, 2

## ERJ-1GNJ103C
designator R?, comment 10K
RES SMD 10K 5% 1/20W 0201; Manufacturer Part Number 1: ERJ-1GNJ103C; Manufacturer 1: Panasonic; CMT Part Number: 100191; Supplier 1: Digi-Key; Supplier Part Number 1: P123222CT-ND; Supplier 2: Mouser; Supplier Part Number 2: 667-ERJ-1GNJ103C; Value: 10K
footprint 0201 (0201 Standard Footprint)
pins: 1, 2

## ERJ-1GNJ103C-DPR12
designator DR?, comment 10K
RES SMD 10K 5% 1/20W 0201 Dual-Position; Manufacturer 1: Panasonic; Manufacturer Part Number 1: ERJ-1GNJ103C; CMT Part Number: 100191; Supplier 1: Digi-Key; Supplier Part Number 1: P123222CT-ND; Value: 10K
footprint DPR-0201-12
pins: 1, 2, 3

## ERJ-1GNJ105C
designator R?, comment 1M
RES SMD 1M OHM 5% 1/20W 0201; Manufacturer Part Number 1: ERJ-1GNJ105C; Manufacturer 1: Panasonic; Supplier 1: Digi-Key; Supplier Part Number 1: P123224CT-ND; Tolerance: 5%; Value: 1M
footprint 0201_L (0201 Least Footprint)
pins: 1, 2

## ERJ-1GNJ515C
designator R?, comment 5.1M
RES SMD 5.1M OHM 5% 1/20W 0201; Manufacturer Part Number 1: ERJ-1GNJ515C; Manufacturer 1: Panasonic; Supplier 1: Digi-Key; Supplier Part Number 1: P123343CT-ND; Tolerance: 5%; Value: 5.1M
footprint 0201_L (0201 Least Footprint)
pins: 1, 2

## ERJ-2BWFR050X
designator R?, comment 50mR
RES 0.05 OHM 1% 1/4W 0402; Manufacturer Part Number 1: ERJ-2BWFR050X; Manufacturer 1: Panasonic Electronic Components; CMT Part Number: 100197; Supplier 1: Digi-Key; Supplier Part Number 1: P17367CT-ND; Supplier 2: Mouser; Supplier Part Number 2: 667-ERJ-2BWFR050X; Value: 50mR
footprint 0402 (0402 Standard Footprint)
pins: 1, 2

## ERJ-2BWFR068X
designator R?, comment 68mR
RES 0.068 OHM 1% 1/4W 0402; Manufacturer Part Number 1: ERJ-2BWFR068X; Manufacturer 1: Panasonic Electronic Components; CMT Part Number: 100199; Supplier 1: Digi-Key; Supplier Part Number 1: P.068ATCT-ND; Supplier 2: Mouser; Supplier Part Number 2: 667-ERJ-2BWFR068X; Value: 68mR
footprint 0402 (0402 Standard Footprint)
pins: 1, 2

## ERJ-2GE0R00X
designator R?, comment 0R
RES 0.0 OHM 1/10W JUMP 0402 SMD; Manufacturer Part Number 1: ERJ-2GE0R00X; Manufacturer 1: Panasonic; CMT Part Number: 100228; Supplier 1: Digi-Key; Supplier Part Number 1: P0.0JCT-ND; Supplier 2: Mouser; Supplier Part Number 2: 667-ERJ-2GE0R00X; Value: 0R
footprint 0402 Resistor
footprint RESC0603N (Chip Resistor, Body 0.6x0.3mm, IPC Medium Density)
footprint 1005[0402] (Chip Resistor; Body 1.1 x 0.5 mm (LxW typ))
footprint 0402 Resistor
pins: 1, 2

## ERJ-2GE0R00X-DPR12
designator DR?, comment 0
RES 0.0 OHM 1/10W JUMP 0402 SMD; Manufacturer 1: Panasonic; Manufacturer Part Number 1: ERJ-2GE0R00X; CMT Part Number: 100166; Supplier 1: Digi-Key; Supplier Part Number 1: P0.0JCT-ND; Supplier 2: Mouser; Supplier Part Number 2: 667-ERJ-2GE0R00X; Value: 0
footprint DPR-0402-12 (Dual Position 0402 Resistor, Default 1-2)
pins: 1, 2, 3

## ERJ-2GEJ100X
designator R?, comment 10
RES 10 OHM 1/10W 5% 0402 SMD; Manufacturer 1: Panasonic; Manufacturer Part Number 1: ERJ-2GEJ100X; Supplier 1: Digi-Key; Supplier Part Number 1: P10JCT-ND; Supplier 2: Mouser; Supplier Part Number 2: 667-ERJ-2GEJ100X; Value: 10
footprint AXIAL-0.3 (Axial Device, Thru-Hole; 2 Leads; 0.3 in Pin Spacing)
simulation model RESISTOR (Resistor)
signal-integrity model Res
footprint 0402-TIGHT (For packing)
footprint 0402 Capacitor
footprint 0402CS-RADIO
pins: 1, 2

## ERJ-2GEJ101X
designator R?, comment 100
RES 100 OHM 1/10W 5% 0402 SMD; Manufacturer 1: Panasonic; Manufacturer Part Number 1: ERJ-2GEJ101X; CMT Part Number: 100193; Supplier 1: Digi-Key; Supplier Part Number 1: P100JCT-ND; Supplier 2: Mouser; Supplier Part Number 2: 667-ERJ-2GEJ101X; Value: 100
footprint AXIAL-0.3 (Axial Device, Thru-Hole; 2 Leads; 0.3 in Pin Spacing)
simulation model RESISTOR (Resistor)
signal-integrity model Res
footprint 0402-TIGHT (For packing)
footprint 0402 Capacitor
footprint 0402CS-RADIO
pins: 1, 2

## ERJ-2GEJ102X
designator R?, comment 1K
RES 1K OHM 1/10W 5% 0402 SMD; Manufacturer Part Number 1: ERJ-2GEJ102X; Manufacturer 1: Panasonic; CMT Part Number: 100195; Supplier 1: Digi-Key; Supplier Part Number 1: P1.0KJCT-ND; Supplier 2: Mouser; Supplier Part Number 2: 667-ERJ-2GEJ102X; Value: 1K
footprint AXIAL-0.3 (Axial Device, Thru-Hole; 2 Leads; 0.3 in Pin Spacing)
simulation model RESISTOR (Resistor)
signal-integrity model Res
footprint 0402-TIGHT (For packing)
footprint 0402 Capacitor
footprint 0402CS-RADIO
pins: 1, 2

## ERJ-2GEJ104X
designator R?, comment 100K
RES 100K OHM 1/10W 5% 0402 SMD; Manufacturer 1: Panasonic; Manufacturer Part Number 1: ERJ-2GEJ104X; Supplier 1: Digi-Key; Supplier Part Number 1: P100KJCT-ND; Supplier 2: Mouser; Supplier Part Number 2: 667-ERJ-2GEJ104X; Value: 100K
footprint AXIAL-0.3 (Axial Device, Thru-Hole; 2 Leads; 0.3 in Pin Spacing)
simulation model RESISTOR (Resistor)
signal-integrity model Res
footprint 0402-TIGHT (For packing)
footprint 0402 Capacitor
footprint 0402CS-RADIO
pins: 1, 2

## ERJ-2GEJ160X
designator R?, comment 16
RES 16 OHM 1/10W 5% 0402 SMD; Manufacturer Part Number 1: ERJ-2GEJ160X; Manufacturer 1: Panasonic; Power: 1/10W; Part Type: Chip Resistor; Tolerance: 5%; Supplier 1: Digi-Key; Supplier Part Number 1: P16JCT-ND; Supplier 2: Mouser; Supplier Part Number 2: 667-ERJ-2GEJ160X; Value: 16
footprint CR0402
footprint RESC1005X40N (Resistor, Chip 0402; 1.00mm L x 0.50mm W, 0.40mm H, Nominal Material Condition)
footprint 0402 Resistor
pins: 1, 2

## ERJ-2GEJ241X
designator R?, comment 240
RES 240 OHM 1/10W 5% 0402 SMD; Manufacturer Part Number 1: ERJ-2GEJ241X; Manufacturer 1: Panasonic; Power: 1/10W; Part Type: Chip Resistor; Tolerance: 5%; Supplier 1: Digi-Key; Supplier Part Number 1: P240JCT-ND; Supplier 2: Mouser; Supplier Part Number 2: 667-ERJ-2GEJ241X; Value: 240
footprint CR0402
footprint RESC1005X40N (Resistor, Chip 0402; 1.00mm L x 0.50mm W, 0.40mm H, Nominal Material Condition)
footprint 0402 Resistor
pins: 1, 2

## ERJ-2GEJ270X
designator R?, comment 27
RES 27 OHM 1/10W 5% 0402 SMD; Manufacturer 1: Panasonic; Manufacturer Part Number 1: ERJ-2GEJ270X; Supplier 1: Digi-Key; Supplier Part Number 1: P27JCT-ND; Supplier 2: Mouser; Supplier Part Number 2: 667-ERJ-2GEJ270X; Value: 27
footprint AXIAL-0.3 (Axial Device, Thru-Hole; 2 Leads; 0.3 in Pin Spacing)
simulation model RESISTOR (Resistor)
signal-integrity model Res
footprint 0402-TIGHT (For packing)
footprint 0402 Capacitor
footprint 0402CS-RADIO
pins: 1, 2

## ERJ-2GEJ272X
designator R?, comment 2.7K
RES 2.7K OHM 1/10W 5% 0402 SMD; Manufacturer 1: Panasonic; Manufacturer Part Number 1: ERJ-2GEJ272X; Supplier 1: Digi-Key; Supplier Part Number 1: P2.7KJCT-ND; Supplier 2: Mouser; Supplier Part Number 2: 667-ERJ-2GEJ272X; Value: 2.7K
footprint AXIAL-0.3 (Axial Device, Thru-Hole; 2 Leads; 0.3 in Pin Spacing)
simulation model RESISTOR (Resistor)
signal-integrity model Res
footprint 0402-TIGHT (For packing)
footprint 0402 Capacitor
footprint 0402CS-RADIO
pins: 1, 2

## ERJ-2GEJ332X
designator R?, comment 3.3K
RES 3.3K OHM 1/10W 5% 0402 SMD; Manufacturer 1: Panasonic; Manufacturer Part Number 1: ERJ-2GEJ332X; Supplier 1: Digi-Key; Supplier Part Number 1: P3.3KJCT-ND; Supplier 2: Mouser; Supplier Part Number 2: 667-ERJ-2GEJ332X; Value: 3.3K
footprint AXIAL-0.3 (Axial Device, Thru-Hole; 2 Leads; 0.3 in Pin Spacing)
simulation model RESISTOR (Resistor)
signal-integrity model Res
footprint 0402-TIGHT (For packing)
footprint 0402 Capacitor
footprint 0402CS-RADIO
pins: 1, 2

## ERJ-2GEJ470X
designator R?, comment 47
RES 47 OHM 1/10W 5% 0402 SMD; Manufacturer 1: Panasonic; Manufacturer Part Number 1: ERJ-2GEJ470X; Supplier 1: Digi-Key; Supplier Part Number 1: P47JCT-ND; Supplier 2: Mouser; Supplier Part Number 2: 667-ERJ-2GEJ470X; Value: 47
footprint AXIAL-0.3 (Axial Device, Thru-Hole; 2 Leads; 0.3 in Pin Spacing)
simulation model RESISTOR (Resistor)
signal-integrity model Res
footprint 0402-TIGHT (For packing)
footprint 0402 Capacitor
footprint 0402CS-RADIO
pins: 1, 2

## ERJ-2GEJ472X
designator R?, comment 4.7K
RES 4.7K OHM 1/10W 5% 0402 SMD; Manufacturer 1: Panasonic; Manufacturer Part Number 1: ERJ-2GEJ472X; Supplier 1: Digi-Key; Supplier Part Number 1: P4.7KJCT-ND; Supplier 2: Mouser; Supplier Part Number 2: 667-ERJ-2GEJ472X; Value: 4.7K
footprint AXIAL-0.3 (Axial Device, Thru-Hole; 2 Leads; 0.3 in Pin Spacing)
simulation model RESISTOR (Resistor)
signal-integrity model Res
footprint 0402-TIGHT (For packing)
footprint 0402 Capacitor
footprint 0402CS-RADIO
pins: 1, 2

## ERJ-2GEJ512X
designator R?, comment 5.1K
RES SMD 5.1K OHM 5% 1/10W 0402; Manufacturer Part Number 1: ERJ-2GEJ512X; Manufacturer 1: Panasonic; Value: 5.1K
footprint AXIAL-0.3 (Axial Device, Thru-Hole; 2 Leads; 0.3 in Pin Spacing)
simulation model RESISTOR (Resistor)
signal-integrity model Res
footprint 0402-TIGHT (For packing)
footprint 0402 Capacitor
footprint 0402CS-RADIO
pins: 1, 2

## ERJ-2GEJ560X
designator R?, comment 56
RES 56 OHM 1/10W 5% 0402 SMD; Manufacturer Part Number 1: ERJ-2GEJ560X; Manufacturer 1: Panasonic; Part Type: Chip Resistor; Tolerance: 5%; Power: 1/10W; Supplier 1: Digi-Key; Supplier Part Number 1: P56JCT-ND; Supplier 2: Mouser; Supplier Part Number 2: 667-ERJ-2GEJ560X; Value: 56
footprint CR0402
footprint RESC1005X40N (Resistor, Chip 0402; 1.00mm L x 0.50mm W, 0.40mm H, Nominal Material Condition)
footprint 0402 Resistor
pins: 1, 2

## ERJ-2GEJ564X
designator R?, comment 560K
RES 560K OHM 1/10W 5% 0402 SMD; Manufacturer 1: Panasonic; Manufacturer Part Number 1: ERJ-2GEJ564X; Supplier 1: Digi-Key; Supplier Part Number 1: P560KJCT-ND; Supplier 2: Mouser; Supplier Part Number 2: 667-ERJ-2GEJ564X; Value: 560K
footprint AXIAL-0.3 (Axial Device, Thru-Hole; 2 Leads; 0.3 in Pin Spacing)
simulation model RESISTOR (Resistor)
signal-integrity model Res
footprint 0402-TIGHT (For packing)
footprint 0402 Capacitor
footprint 0402CS-RADIO
pins: 1, 2

## ERJ-2RKF1000X
designator R?, comment Tolerance: 1%  (hidden comment: 100)
RES SMD 100 OHM 1% 1/10W 0402; Manufacturer 1: Panasonic; Manufacturer Part Number 1: ERJ-2RKF1000X; Supplier 1: Digi-Key; Supplier Part Number 1: P100LCT-ND; Value: 100
footprint AXIAL-0.3 (Axial Device, Thru-Hole; 2 Leads; 0.3 in Pin Spacing)
simulation model RESISTOR (Resistor)
signal-integrity model Res
footprint 0402-TIGHT (For packing)
footprint 0402 Capacitor
footprint 0402CS-RADIO
footprint 0402 resistor
pins: 1, 2

## ERJ-2RKF1002X
designator R111, comment Tolerance: 1%  (hidden comment: 10.0K)
RES SMD 10K OHM 1% 1/10W 0402; Manufacturer 1: Panasonic; Manufacturer Part Number 1: ERJ-2RKF1002X; CMT Part Number: 100237; Case/Package: 0402; Supplier 1: Digi-Key; Supplier Part Number 1: P10.0KLCT-ND; Supplier 2: Mouser; Supplier Part Number 2: 667-ERJ-2RKF1002X; Value: 10.0K
footprint 0402 Resistor
footprint 0402
pins: 1, 2

## ERJ-2RKF1202X
designator R111, comment 12K
RES SMD 12K OHM 1% 1/10W 0402; Manufacturer 1: Panasonic; Manufacturer Part Number 1: ERJ-2RKF1202X; Case/Package: 0402; Supplier 1: Digi-Key; Supplier Part Number 1: P12.0KLCT-ND; Supplier 2: Mouser; Supplier Part Number 2: 667-ERJ-2RKF1202X; CMT Part Number: *; Value: 12K
footprint 0402 Resistor
footprint 0402
pins: 1, 2

## ERJ-2RKF4022X
designator R?, comment Tolerance: 1%  (hidden comment: 40.2K)
RES SMD 40.2K OHM 1% 1/16W 0402; Manufacturer 1: Panasonic; Manufacturer Part Number 1: ERJ-2RKF4022X; CMT Part Number: 100241; Supplier 1: Digi-Key; Supplier Part Number 1: P40.2KLCT-ND; Value: 40.2K
footprint AXIAL-0.3 (Axial Device, Thru-Hole; 2 Leads; 0.3 in Pin Spacing)
simulation model RESISTOR (Resistor)
signal-integrity model Res
footprint 0402-TIGHT (For packing)
footprint 0402 Capacitor
footprint 0402CS-RADIO
footprint 0402 (0402 Standard Footprint)
pins: 1, 2

## ERJ-2RKF5602X
designator R?, comment 56K
RES 56K OHM 1/10W 1% 0402 SMD; Manufacturer Part Number 1: ERJ-2RKF5602X; Manufacturer 1: Panasonic; Tolerance: 5%; Part Type: Chip Resistor; Power: 1/10W; Supplier 1: Digi-Key; Supplier Part Number 1: P56.0KLCT-ND; Supplier 2: Mouser; Supplier Part Number 2: 667-ERJ-2RKF5602X; Value: 56K
footprint CR0402
footprint RESC1005X40N (Resistor, Chip 0402; 1.00mm L x 0.50mm W, 0.40mm H, Nominal Material Condition)
footprint 0402 Resistor
pins: 1, 2

## ERJ-3GEY0R00V
designator R?, comment 0R
RES SMD 0 OHM JUMPER 1/10W 0603; Manufacturer Part Number 1: ERJ-3GEY0R00V; Manufacturer 1: Panasonic; CMT Part Number: 100229; Case/Package: 0603; Supplier 1: Digi-Key; Supplier Part Number 1: P0.0GTR-ND; Value: 0R
footprint 0603 (Standard 0603 Component Footprint)
pins: 1, 2

## ERT-J0EM103H
designator R?, comment 10K NTC
THERMISTOR NTC 10KOHM 3900K 0402; Manufacturer Part Number 1: ERT-J0EM103H; Manufacturer 1: Panasonic; Supplier 1: Digi-Key; Supplier Part Number 1: P13701CT-ND; Supplier 2: Mouser; Supplier Part Number 2: 667-ERT-J0EM103H; Value: 10K NTC
footprint 0402 Resistor
footprint RESC0603N (Chip Resistor, Body 0.6x0.3mm, IPC Medium Density)
footprint 1005[0402] (Chip Resistor; Body 1.1 x 0.5 mm (LxW typ))
footprint 0402
pins: 1, 2

## ESDA6V1BC6
designator D4
TVS DIODE 5V SOT23-6; Manufacturer 1: STMicroelectronics; CMT Part Number: 100163; Number of Elements: 4; Max Breakdown Voltage: 8V; Min Breakdown Voltage: 6.1V; Clamping Voltage: 11.35V; Supplier 1: Digi-Key; Manufacturer Part Number 1: ESDA6V1BC6; Case/Package: SOT-23; Operating Supply Voltage: 5V; ComponentLink1URL: http://www.st.com/content/ccc/resource/technical/document/datasheet/21/07/21/e3/a8/df/42/a2/CD00001906.pdf/files/CD00001906.pdf/jcr:content/translations/en.CD00001906.pdf; ComponentLink1Description: http://www.st.com/content/ccc/resource/technical/document/datasheet/21/07/21/e3/a8/df/42/a2/CD00001906.pdf/files/CD00001906.pdf/jcr:content/translations/en.CD00001906.pdf; ComponentLink2URL: https://www.verical.com/server-webapp/html/getDatasheet?partID=148472; ComponentLink2Description: https://www.verical.com/server-webapp/html/getDatasheet?partID=148472; ComponentLink3URL: http://www.mouser.com/ds/2/389/esda6v1bc6-954598.pdf; ComponentLink3Description: http://www.mouser.com/ds/2/389/esda6v1bc6-954598.pdf; ComponentLink4URL: http://www.st.com/st-web-ui/static/active/en/resource/technical/document/datasheet/CD00001906.pdf; ComponentLink4Description: http://www.st.com/st-web-ui/static/active/en/resource/technical/document/datasheet/CD00001906.pdf; ComponentLink5URL: https://www.distrelec.biz/Web/Downloads/_t/ds/ESDA6V1BC6_ST_eng_tds.pdf?mime=application%2Fpdf; ComponentLink5Description: https://www.distrelec.biz/Web/Downloads/_t/ds/ESDA6V1BC6_ST_eng_tds.pdf?mime=application%2Fpdf; ComponentLink6URL: http://www.farnell.com/datasheets/1671767.pdf; ComponentLink6Description: http://www.farnell.com/datasheets/1671767.pdf; Supplier Part Number 1: 497-6635-2-ND; Value: ESDA6V1BC6
footprint SOT23-6L
pins: 1 IO1, 2 IO2, 3 GND, 4 IO3, 5 IO4, 6 NC

## ESP-WROOM-32
designator U?, comment ESP32-WROOM-32
SMD MODULE, ESP32-D0WDQ6, 32MBIT; Manufacturer 1: Espressif; Datasheet: https://espressif.com/sites/default/files/documentation/esp_wroom_32_datasheet_en.pdf; Value: ESP32-WROOM-32; Supplier 1: Digi-Key; Supplier Part Number 1: 1904-1010-1-ND; Manufacturer Part Number 1: ESP32-WROOM-32
footprint ESP32S (ESP32S-Module)
footprint ESP32S_W (Esp32S Module wide for hand soldering)
pins: 1 GND (power), 2 3V3 (power), 3 EN (power), 4 SENSOR_VP, 5 SENSOR_VN, 6 IO34, 7 IO35, 8 IO32, 9 IO33, 10 IO25, 11 IO26, 12 IO27, 13 IO14, 14 IO12, 15 GND (power), 16 IO13, 17 SD2, 18 SD3, 19 CMD, 20 CLK, 21 SD0, 22 SD1, 23 IO15, 24 IO2, 25 IO0, 26 IO4, 27 IO16, 28 IO17, 29 IO5, 30 IO18, 31 IO19, 32 NC, 33 IO21, 34 RXD0, 35 TXD0, 36 IO22, 37 IO23, 38 GND (power), 101 GND_PAD (power)

## FA-20H 38.4000MF10Z-AS3
designator Y?  Frequency: 38.4 MHz  (hidden comment: FA-20H 38.4000MF10Z-AS3)
CRYSTAL 38.4000MHZ 8.5PF SMD; Manufacturer 1: Epson; Frequency Stability: ±10ppm; Manufacturer Part Number 1: FA-20H 38.4000MF10Z-AS3; Value: FA-20H 38.4000MF10Z-AS3; Supplier 1: Digi-Key; Supplier Part Number 1: SER3631CT-ND
footprint DFN90P200X70-4N (DFN, 4-Leads, Body 2.50x2.00mm, Pitch 0.90mm, IPC Medium Density)
pins: 1, 2 GND (power), 3, 4 GND (power)
text: G

## FA-128 24.0000MF10Z-W3
designator Y?, comment 24.0000MHz
CRYSTAL 24.0000MHZ 12PF SMD; Manufacturer 1: EPSON; Manufacturer Part Number 1: FA-128 24.0000MF10Z-W3; Supplier 1: Digi-Key; Supplier Part Number 1: SER3678CT-ND; Value: 24.0000MHz
footprint DFN95P160X100-4N (DFN, 4-Leads, Body 2.00x1.60mm, Pitch 0.95mm, IPC Medium Density)
pins: 1, 2 GND (power), 3, 4 GND (power)
text: G

## FAN5602
designator U?, comment FAN5602MP5X
IC REG MULTI CONFIG 5V 0.2A 8MLP; Manufacturer 1: Fairchild; Manufacturer Part Number 1: FAN5602MP5X; Value: FAN5602MP5X; Supplier 1: Digi-Key; Supplier Part Number 1: FAN5602MP5XCT-ND; Supplier 2: Mouser; Supplier Part Number 2: 512-FAN5602MP5X
footprint QFN65P300X300X60_HS-9N (QFN, 8-Leads, Body 3.00x3.00mm, Pitch 0.65mm, Thermal Pad 1.50x2.25mm, IPC Medium Density)
pins: 1 IN, 2 C2+, 3 C2-, 4 GND, 5 C1-, 6 OUT1, 7 C1+, 8 EN, 9 PAD

## FAN5702UC30X
designator U*
IC LED DRIVER RGLTR DIM 16WLCSP; Manufacturer 1: ON Semiconductor; Manufacturer Part Number 1: FAN5702UC30X; Value: FAN5702UC30X; Supplier 1: Digi-Key; Supplier Part Number 1: FAN5702UC30XCT-ND
footprint BGA16C40P4X4_161X161X62 - ON Semi WLCSP16 (BGA, 16-Leads, Body 1.61x1.61mmx0.63mm, Pitch 0.40mm)
pins: A1 D2A (in), A2 D1A (in), A3 SCL (in), A4 EN/PWM (in), B1 D4 (in), B2 D3 (in), B3 SDA (io), B4 GND (power), C1 D6 (in), C2 D5 (in), C3 C2+, C4 C2-, D1 VOUT (power), D2 VIN (power), D3 C1+, D4 C1-

## FAN5702UMP30X
designator U*
IC LED DRIVER RGLTR DIM 16UMLP; Manufacturer 1: ON Semiconductor; CMT Part Number: 100268; Manufacturer Part Number 1: FAN5702UMP30X; Supplier 1: Mouser; Supplier Part Number 1: 512-FAN5702UMP30X; Value: FAN5702UMP30X
footprint QFN50P300X300X100_HS-17N (QFN, 16-Leads, Body 3.00x3.00mm, Pitch 0.50mm, Thermal Pad 1.70x1.70mm, IPC Medium Density)
pins: 1 D2A (in), 2 D1A (in), 3 SCL (in), 4 EN/PWM (in), 5 SDA (io), 6 GND (power), 7 C2-, 8 C2+, 9 C1-, 10 C1+, 11 VIN (power), 12 VOUT (power), 13 D6 (in), 14 D5 (in), 15 D4 (in), 16 D3 (in), 17 GND/EP (power)